# Altium footprint library 3012.PcbLib: 1 footprints
Each footprint in its own frame and in the unit in brackets; x right, y up, seen from the top. Pads: shape width x height; smd on the part's side, far side on the other; paste and mask are expansions set on the pad; w line width, h text height; cw(c..) or ccw(c..) is an arc to the next point about the centre after c.
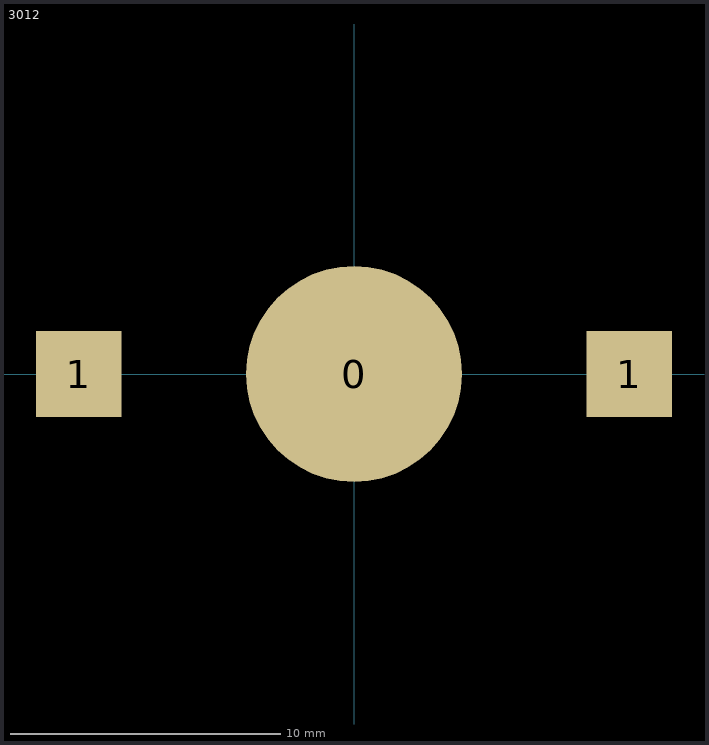
[diagram p0: the footprint, top view; thin cyan lines are the x and y axes]

## 3012 [mm] "COIN CELL HOLDER 16MM"
pads (3):
  round 8 smd mask+2: 0(0,0)
  rect 3.18x3.18 smd: 1(-10.2,0) 1(10.2,0)
3D body "keystone-PN3012.STEP": height 4.05, standoff 0.09, extent -11.608,-8.737 11.608,6.35